# EAGLE library part MOLEX_54366-0478 (library Traficon)
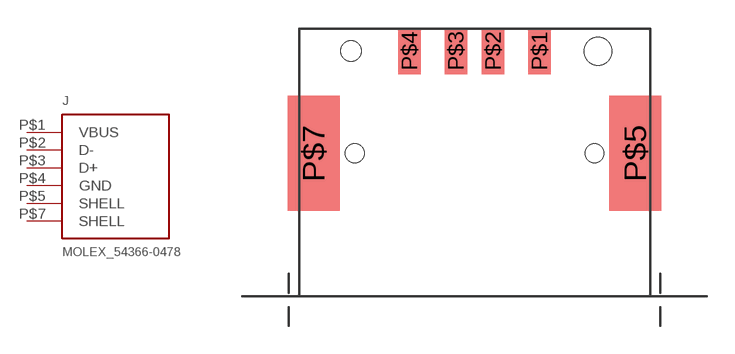
[diagram p205: symbol with the pads of MOLEX_54366-0478; footprint MOLEX_54366-0478]

Designator prefix J

## MOLEX_54366-0478  [MOLEX_54366-0478]
P$1  VBUS  pwr
P$2  D-
P$3  D+
P$4  GND  pwr
P$5  SHELL  pas
P$7  SHELL  pas

## Footprint MOLEX_54366-0478 (pad centres in mm)
smd 1.2 x 2.5: P$1 3.5,0; P$2 1,0; P$3 -1,0; P$4 -3.5,0
smd 2.8 x 6.2: P$5 8.652,-5.507; P$7 -8.663,-5.51
hole 1.5 at 6.65,0
hole 1.1 at -6.65,0
hole 1 at -6.45,-5.5
hole 1 at 6.45,-5.5